# EAGLE library part TPS61253 (library daqcs)
Boost Switching Regulator IC Positive Fixed 5V 1 Output 3.3A (Switch) 9-UFBGA, DSBGA
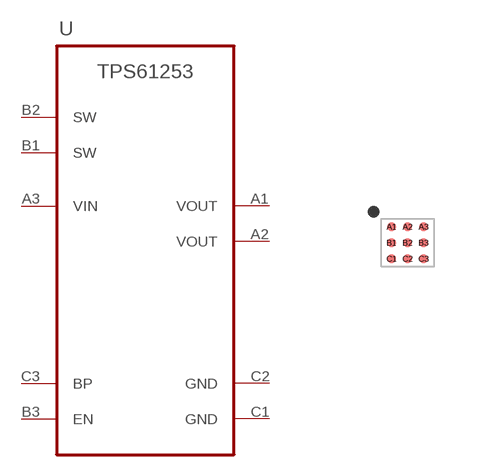
[diagram p20: symbol with the pads of BGA040D023-9N; footprint BGA040D023-9N]

Designator prefix U

## TPS61253 (DATASHEET: HW/docs/projects/raspi_zero_power_sensor_hat/datasheets/boost_main/tps612592.pdf; MANUFACTURER: Texas Instruments; MANUFACTURER_PN: TPS61253YFFR; VALUE: TPS61253YFFR; VENDOR: Digi-key; VENDOR_PN: 296-36818-1-ND)  [BGA040D023-9N]
A1  VOUT  pwr
A2  VOUT  pwr
A3  VIN  pwr
B1  SW
B2  SW
B3  EN  in
C1  GND  pwr
C2  GND  pwr
C3  BP  in

## Footprint BGA040D023-9N (pad centres in mm)
smd 0.23 x 0.23: A1 -0.4,0.4; A2 0,0.4; A3 0.4,0.4; B1 -0.4,0; B2 0,0; B3 0.4,0; C1 -0.4,-0.4; C2 0,-0.4; C3 0.4,-0.4